# Altium footprint library con-leotronics.PCBLIB: 93 footprints (part 3 of 8)
Each footprint in its own frame and in the unit in brackets; x right, y up, seen from the top. Pads: shape width x height; smd on the part's side, far side on the other; paste and mask are expansions set on the pad; w line width, h text height; cw(c..) or ccw(c..) is an arc to the next point about the centre after c.
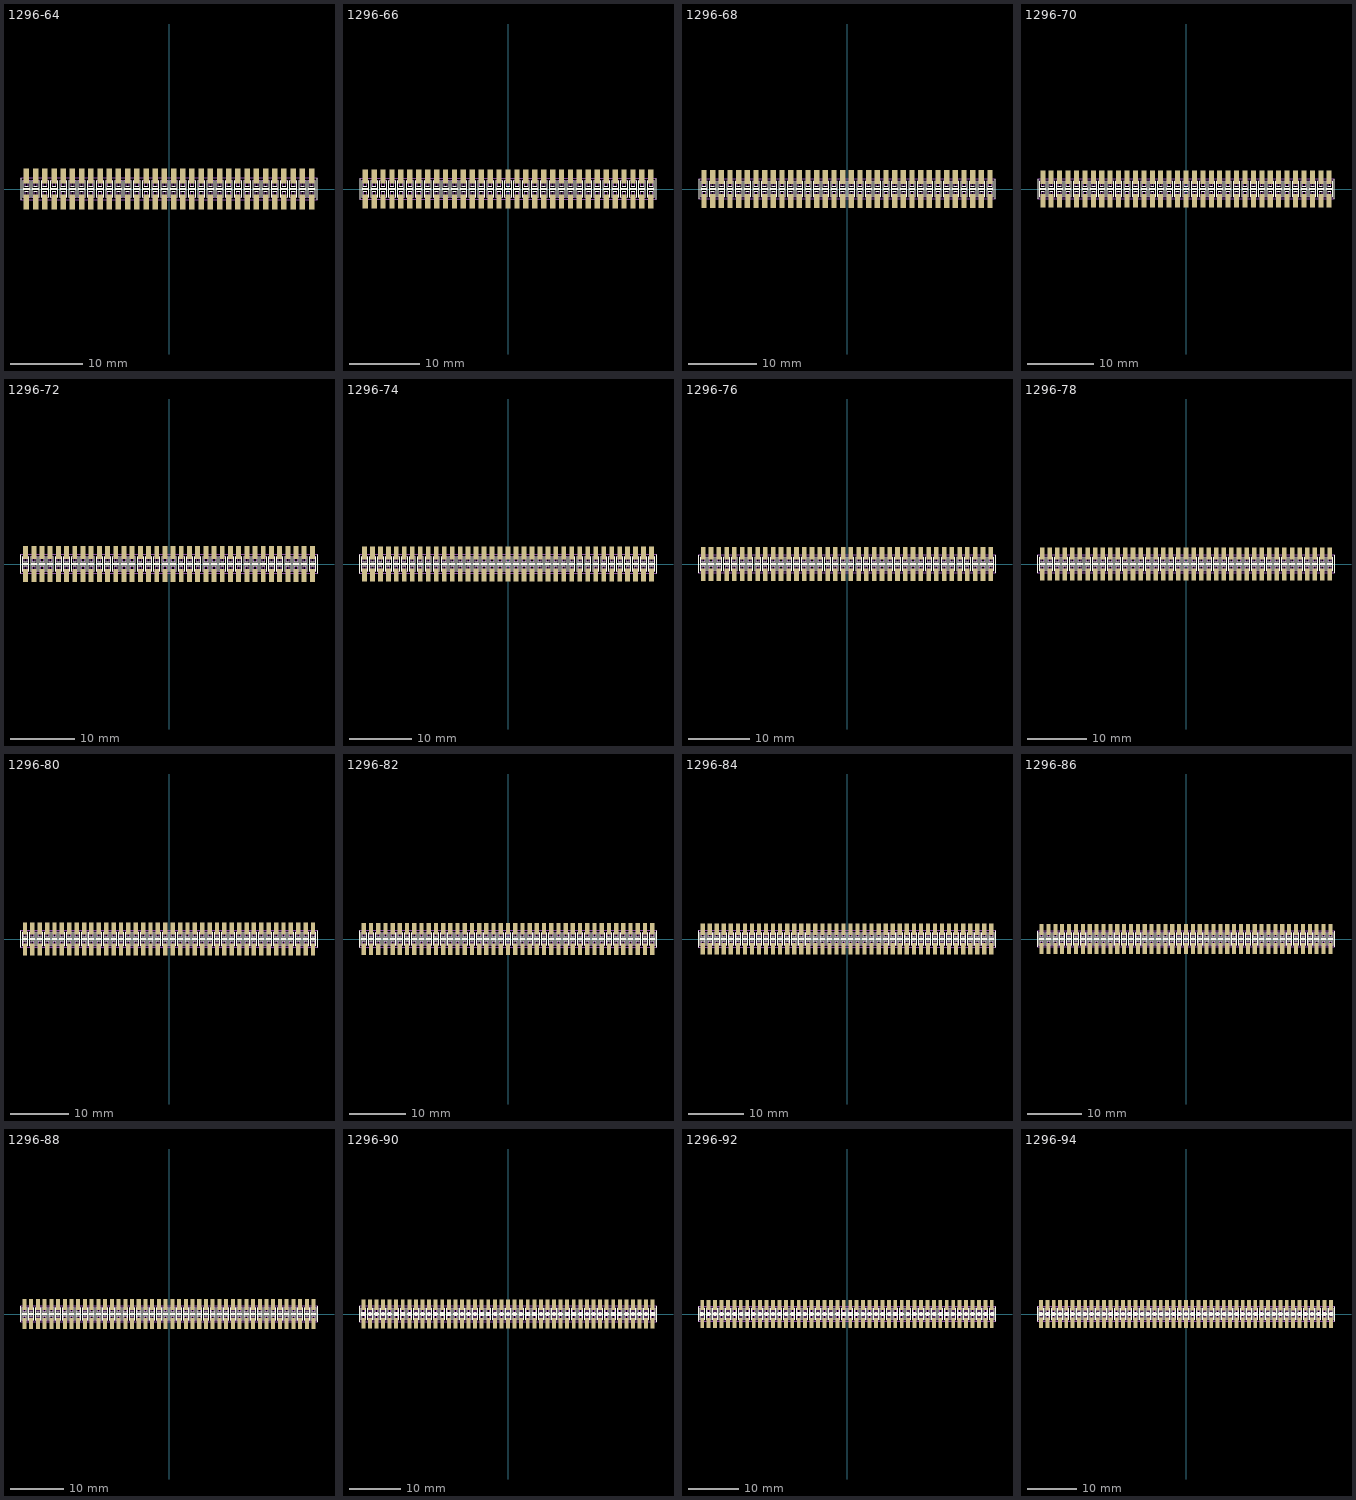
[diagram p2: the footprints below, top view; thin cyan lines are the x and y axes]

## 1296-64 [mm]
pads (64):
  rect 0.76x2.05 smd: 1(-19.685,-1.78) 2(-19.685,1.78) 3(-18.415,-1.78) 4(-18.415,1.78) 5(-17.145,-1.78) 6(-17.145,1.78) 7(-15.875,-1.78) 8(-15.875,1.78) 9(-14.605,-1.78) 10(-14.605,1.78) 11(-13.335,-1.78) 12(-13.335,1.78) 13(-12.065,-1.78) 14(-12.065,1.78) 15(-10.795,-1.78) 16(-10.795,1.78) 17(-9.525,-1.78) 18(-9.525,1.78) 19(-8.255,-1.78) 20(-8.255,1.78) 21(-6.985,-1.78) 22(-6.985,1.78) 23(-5.715,-1.78) 24(-5.715,1.78) 25(-4.445,-1.78) 26(-4.445,1.78) 27(-3.175,-1.78) 28(-3.175,1.78) 29(-1.905,-1.78) 30(-1.905,1.78) 31(-0.635,-1.78) 32(-0.635,1.78) 33(0.635,-1.78) 34(0.635,1.78) 35(1.905,-1.78) 36(1.905,1.78) 37(3.175,-1.78) 38(3.175,1.78) 39(4.445,-1.78) 40(4.445,1.78) 41(5.715,-1.78) 42(5.715,1.78) 43(6.985,-1.78) 44(6.985,1.78) 45(8.255,-1.78) 46(8.255,1.78) 47(9.525,-1.78) 48(9.525,1.78) 49(10.795,-1.78) 50(10.795,1.78) 51(12.065,-1.78) 52(12.065,1.78) 53(13.335,-1.78) 54(13.335,1.78) 55(14.605,-1.78) 56(14.605,1.78) 57(15.875,-1.78) 58(15.875,1.78) 59(17.145,-1.78) 60(17.145,1.78) 61(18.415,-1.78) 62(18.415,1.78) 63(19.685,-1.78) 64(19.685,1.78)
Top Overlay:
  drawing of 258 lines, arcs and shapes, not listed
Mechanical 16:
  drawing of 258 lines, arcs and shapes, not listed

## 1296-66 [mm]
pads (66):
  rect 0.76x2.05 smd: 1(-20.32,-1.78) 2(-20.32,1.78) 3(-19.05,-1.78) 4(-19.05,1.78) 5(-17.78,-1.78) 6(-17.78,1.78) 7(-16.51,-1.78) 8(-16.51,1.78) 9(-15.24,-1.78) 10(-15.24,1.78) 11(-13.97,-1.78) 12(-13.97,1.78) 13(-12.7,-1.78) 14(-12.7,1.78) 15(-11.43,-1.78) 16(-11.43,1.78) 17(-10.16,-1.78) 18(-10.16,1.78) 19(-8.89,-1.78) 20(-8.89,1.78) 21(-7.62,-1.78) 22(-7.62,1.78) 23(-6.35,-1.78) 24(-6.35,1.78) 25(-5.08,-1.78) 26(-5.08,1.78) 27(-3.81,-1.78) 28(-3.81,1.78) 29(-2.54,-1.78) 30(-2.54,1.78) 31(-1.27,-1.78) 32(-1.27,1.78) 33(0,-1.78) 34(0,1.78) 35(1.27,-1.78) 36(1.27,1.78) 37(2.54,-1.78) 38(2.54,1.78) 39(3.81,-1.78) 40(3.81,1.78) 41(5.08,-1.78) 42(5.08,1.78) 43(6.35,-1.78) 44(6.35,1.78) 45(7.62,-1.78) 46(7.62,1.78) 47(8.89,-1.78) 48(8.89,1.78) 49(10.16,-1.78) 50(10.16,1.78) 51(11.43,-1.78) 52(11.43,1.78) 53(12.7,-1.78) 54(12.7,1.78) 55(13.97,-1.78) 56(13.97,1.78) 57(15.24,-1.78) 58(15.24,1.78) 59(16.51,-1.78) 60(16.51,1.78) 61(17.78,-1.78) 62(17.78,1.78) 63(19.05,-1.78) 64(19.05,1.78) 65(20.32,-1.78) 66(20.32,1.78)
Top Overlay:
  drawing of 266 lines, arcs and shapes, not listed
Mechanical 16:
  drawing of 266 lines, arcs and shapes, not listed

## 1296-68 [mm]
pads (68):
  rect 0.76x2.05 smd: 1(-20.955,-1.78) 2(-20.955,1.78) 3(-19.685,-1.78) 4(-19.685,1.78) 5(-18.415,-1.78) 6(-18.415,1.78) 7(-17.145,-1.78) 8(-17.145,1.78) 9(-15.875,-1.78) 10(-15.875,1.78) 11(-14.605,-1.78) 12(-14.605,1.78) 13(-13.335,-1.78) 14(-13.335,1.78) 15(-12.065,-1.78) 16(-12.065,1.78) 17(-10.795,-1.78) 18(-10.795,1.78) 19(-9.525,-1.78) 20(-9.525,1.78) 21(-8.255,-1.78) 22(-8.255,1.78) 23(-6.985,-1.78) 24(-6.985,1.78) 25(-5.715,-1.78) 26(-5.715,1.78) 27(-4.445,-1.78) 28(-4.445,1.78) 29(-3.175,-1.78) 30(-3.175,1.78) 31(-1.905,-1.78) 32(-1.905,1.78) 33(-0.635,-1.78) 34(-0.635,1.78) 35(0.635,-1.78) 36(0.635,1.78) 37(1.905,-1.78) 38(1.905,1.78) 39(3.175,-1.78) 40(3.175,1.78) 41(4.445,-1.78) 42(4.445,1.78) 43(5.715,-1.78) 44(5.715,1.78) 45(6.985,-1.78) 46(6.985,1.78) 47(8.255,-1.78) 48(8.255,1.78) 49(9.525,-1.78) 50(9.525,1.78) 51(10.795,-1.78) 52(10.795,1.78) 53(12.065,-1.78) 54(12.065,1.78) 55(13.335,-1.78) 56(13.335,1.78) 57(14.605,-1.78) 58(14.605,1.78) 59(15.875,-1.78) 60(15.875,1.78) 61(17.145,-1.78) 62(17.145,1.78) 63(18.415,-1.78) 64(18.415,1.78) 65(19.685,-1.78) 66(19.685,1.78) 67(20.955,-1.78) 68(20.955,1.78)
Top Overlay:
  drawing of 274 lines, arcs and shapes, not listed
Mechanical 16:
  drawing of 274 lines, arcs and shapes, not listed

## 1296-70 [mm]
pads (70):
  rect 0.76x2.05 smd: 1(-21.59,-1.78) 2(-21.59,1.78) 3(-20.32,-1.78) 4(-20.32,1.78) 5(-19.05,-1.78) 6(-19.05,1.78) 7(-17.78,-1.78) 8(-17.78,1.78) 9(-16.51,-1.78) 10(-16.51,1.78) 11(-15.24,-1.78) 12(-15.24,1.78) 13(-13.97,-1.78) 14(-13.97,1.78) 15(-12.7,-1.78) 16(-12.7,1.78) 17(-11.43,-1.78) 18(-11.43,1.78) 19(-10.16,-1.78) 20(-10.16,1.78) 21(-8.89,-1.78) 22(-8.89,1.78) 23(-7.62,-1.78) 24(-7.62,1.78) 25(-6.35,-1.78) 26(-6.35,1.78) 27(-5.08,-1.78) 28(-5.08,1.78) 29(-3.81,-1.78) 30(-3.81,1.78) 31(-2.54,-1.78) 32(-2.54,1.78) 33(-1.27,-1.78) 34(-1.27,1.78) 35(0,-1.78) 36(0,1.78) 37(1.27,-1.78) 38(1.27,1.78) 39(2.54,-1.78) 40(2.54,1.78) 41(3.81,-1.78) 42(3.81,1.78) 43(5.08,-1.78) 44(5.08,1.78) 45(6.35,-1.78) 46(6.35,1.78) 47(7.62,-1.78) 48(7.62,1.78) 49(8.89,-1.78) 50(8.89,1.78) 51(10.16,-1.78) 52(10.16,1.78) 53(11.43,-1.78) 54(11.43,1.78) 55(12.7,-1.78) 56(12.7,1.78) 57(13.97,-1.78) 58(13.97,1.78) 59(15.24,-1.78) 60(15.24,1.78) 61(16.51,-1.78) 62(16.51,1.78) 63(17.78,-1.78) 64(17.78,1.78) 65(19.05,-1.78) 66(19.05,1.78) 67(20.32,-1.78) 68(20.32,1.78) 69(21.59,-1.78) 70(21.59,1.78)
Top Overlay:
  drawing of 282 lines, arcs and shapes, not listed
Mechanical 16:
  drawing of 282 lines, arcs and shapes, not listed

## 1296-72 [mm]
pads (72):
  rect 0.76x2.05 smd: 1(-22.225,-1.78) 2(-22.225,1.78) 3(-20.955,-1.78) 4(-20.955,1.78) 5(-19.685,-1.78) 6(-19.685,1.78) 7(-18.415,-1.78) 8(-18.415,1.78) 9(-17.145,-1.78) 10(-17.145,1.78) 11(-15.875,-1.78) 12(-15.875,1.78) 13(-14.605,-1.78) 14(-14.605,1.78) 15(-13.335,-1.78) 16(-13.335,1.78) 17(-12.065,-1.78) 18(-12.065,1.78) 19(-10.795,-1.78) 20(-10.795,1.78) 21(-9.525,-1.78) 22(-9.525,1.78) 23(-8.255,-1.78) 24(-8.255,1.78) 25(-6.985,-1.78) 26(-6.985,1.78) 27(-5.715,-1.78) 28(-5.715,1.78) 29(-4.445,-1.78) 30(-4.445,1.78) 31(-3.175,-1.78) 32(-3.175,1.78) 33(-1.905,-1.78) 34(-1.905,1.78) 35(-0.635,-1.78) 36(-0.635,1.78) 37(0.635,-1.78) 38(0.635,1.78) 39(1.905,-1.78) 40(1.905,1.78) 41(3.175,-1.78) 42(3.175,1.78) 43(4.445,-1.78) 44(4.445,1.78) 45(5.715,-1.78) 46(5.715,1.78) 47(6.985,-1.78) 48(6.985,1.78) 49(8.255,-1.78) 50(8.255,1.78) 51(9.525,-1.78) 52(9.525,1.78) 53(10.795,-1.78) 54(10.795,1.78) 55(12.065,-1.78) 56(12.065,1.78) 57(13.335,-1.78) 58(13.335,1.78) 59(14.605,-1.78) 60(14.605,1.78) 61(15.875,-1.78) 62(15.875,1.78) 63(17.145,-1.78) 64(17.145,1.78) 65(18.415,-1.78) 66(18.415,1.78) 67(19.685,-1.78) 68(19.685,1.78) 69(20.955,-1.78) 70(20.955,1.78) 71(22.225,-1.78) 72(22.225,1.78)
Top Overlay:
  drawing of 290 lines, arcs and shapes, not listed
Mechanical 16:
  drawing of 290 lines, arcs and shapes, not listed

## 1296-74 [mm]
pads (74):
  rect 0.76x2.05 smd: 1(-22.86,-1.78) 2(-22.86,1.78) 3(-21.59,-1.78) 4(-21.59,1.78) 5(-20.32,-1.78) 6(-20.32,1.78) 7(-19.05,-1.78) 8(-19.05,1.78) 9(-17.78,-1.78) 10(-17.78,1.78) 11(-16.51,-1.78) 12(-16.51,1.78) 13(-15.24,-1.78) 14(-15.24,1.78) 15(-13.97,-1.78) 16(-13.97,1.78) 17(-12.7,-1.78) 18(-12.7,1.78) 19(-11.43,-1.78) 20(-11.43,1.78) 21(-10.16,-1.78) 22(-10.16,1.78) 23(-8.89,-1.78) 24(-8.89,1.78) 25(-7.62,-1.78) 26(-7.62,1.78) 27(-6.35,-1.78) 28(-6.35,1.78) 29(-5.08,-1.78) 30(-5.08,1.78) 31(-3.81,-1.78) 32(-3.81,1.78) 33(-2.54,-1.78) 34(-2.54,1.78) 35(-1.27,-1.78) 36(-1.27,1.78) 37(0,-1.78) 38(0,1.78) 39(1.27,-1.78) 40(1.27,1.78) 41(2.54,-1.78) 42(2.54,1.78) 43(3.81,-1.78) 44(3.81,1.78) 45(5.08,-1.78) 46(5.08,1.78) 47(6.35,-1.78) 48(6.35,1.78) 49(7.62,-1.78) 50(7.62,1.78) 51(8.89,-1.78) 52(8.89,1.78) 53(10.16,-1.78) 54(10.16,1.78) 55(11.43,-1.78) 56(11.43,1.78) 57(12.7,-1.78) 58(12.7,1.78) 59(13.97,-1.78) 60(13.97,1.78) 61(15.24,-1.78) 62(15.24,1.78) 63(16.51,-1.78) 64(16.51,1.78) 65(17.78,-1.78) 66(17.78,1.78) 67(19.05,-1.78) 68(19.05,1.78) 69(20.32,-1.78) 70(20.32,1.78) 71(21.59,-1.78) 72(21.59,1.78) 73(22.86,-1.78) 74(22.86,1.78)
Top Overlay:
  drawing of 298 lines, arcs and shapes, not listed
Mechanical 16:
  drawing of 298 lines, arcs and shapes, not listed

## 1296-76 [mm]
pads (76):
  rect 0.76x2.05 smd: 1(-23.495,-1.78) 2(-23.495,1.78) 3(-22.225,-1.78) 4(-22.225,1.78) 5(-20.955,-1.78) 6(-20.955,1.78) 7(-19.685,-1.78) 8(-19.685,1.78) 9(-18.415,-1.78) 10(-18.415,1.78) 11(-17.145,-1.78) 12(-17.145,1.78) 13(-15.875,-1.78) 14(-15.875,1.78) 15(-14.605,-1.78) 16(-14.605,1.78) 17(-13.335,-1.78) 18(-13.335,1.78) 19(-12.065,-1.78) 20(-12.065,1.78) 21(-10.795,-1.78) 22(-10.795,1.78) 23(-9.525,-1.78) 24(-9.525,1.78) 25(-8.255,-1.78) 26(-8.255,1.78) 27(-6.985,-1.78) 28(-6.985,1.78) 29(-5.715,-1.78) 30(-5.715,1.78) 31(-4.445,-1.78) 32(-4.445,1.78) 33(-3.175,-1.78) 34(-3.175,1.78) 35(-1.905,-1.78) 36(-1.905,1.78) 37(-0.635,-1.78) 38(-0.635,1.78) 39(0.635,-1.78) 40(0.635,1.78) 41(1.905,-1.78) 42(1.905,1.78) 43(3.175,-1.78) 44(3.175,1.78) 45(4.445,-1.78) 46(4.445,1.78) 47(5.715,-1.78) 48(5.715,1.78) 49(6.985,-1.78) 50(6.985,1.78) 51(8.255,-1.78) 52(8.255,1.78) 53(9.525,-1.78) 54(9.525,1.78) 55(10.795,-1.78) 56(10.795,1.78) 57(12.065,-1.78) 58(12.065,1.78) 59(13.335,-1.78) 60(13.335,1.78) 61(14.605,-1.78) 62(14.605,1.78) 63(15.875,-1.78) 64(15.875,1.78) 65(17.145,-1.78) 66(17.145,1.78) 67(18.415,-1.78) 68(18.415,1.78) 69(19.685,-1.78) 70(19.685,1.78) 71(20.955,-1.78) 72(20.955,1.78) 73(22.225,-1.78) 74(22.225,1.78) 75(23.495,-1.78) 76(23.495,1.78)
Top Overlay:
  drawing of 306 lines, arcs and shapes, not listed
Mechanical 16:
  drawing of 306 lines, arcs and shapes, not listed

## 1296-78 [mm]
pads (78):
  rect 0.76x2.05 smd: 1(-24.13,-1.78) 2(-24.13,1.78) 3(-22.86,-1.78) 4(-22.86,1.78) 5(-21.59,-1.78) 6(-21.59,1.78) 7(-20.32,-1.78) 8(-20.32,1.78) 9(-19.05,-1.78) 10(-19.05,1.78) 11(-17.78,-1.78) 12(-17.78,1.78) 13(-16.51,-1.78) 14(-16.51,1.78) 15(-15.24,-1.78) 16(-15.24,1.78) 17(-13.97,-1.78) 18(-13.97,1.78) 19(-12.7,-1.78) 20(-12.7,1.78) 21(-11.43,-1.78) 22(-11.43,1.78) 23(-10.16,-1.78) 24(-10.16,1.78) 25(-8.89,-1.78) 26(-8.89,1.78) 27(-7.62,-1.78) 28(-7.62,1.78) 29(-6.35,-1.78) 30(-6.35,1.78) 31(-5.08,-1.78) 32(-5.08,1.78) 33(-3.81,-1.78) 34(-3.81,1.78) 35(-2.54,-1.78) 36(-2.54,1.78) 37(-1.27,-1.78) 38(-1.27,1.78) 39(0,-1.78) 40(0,1.78) 41(1.27,-1.78) 42(1.27,1.78) 43(2.54,-1.78) 44(2.54,1.78) 45(3.81,-1.78) 46(3.81,1.78) 47(5.08,-1.78) 48(5.08,1.78) 49(6.35,-1.78) 50(6.35,1.78) 51(7.62,-1.78) 52(7.62,1.78) 53(8.89,-1.78) 54(8.89,1.78) 55(10.16,-1.78) 56(10.16,1.78) 57(11.43,-1.78) 58(11.43,1.78) 59(12.7,-1.78) 60(12.7,1.78) 61(13.97,-1.78) 62(13.97,1.78) 63(15.24,-1.78) 64(15.24,1.78) 65(16.51,-1.78) 66(16.51,1.78) 67(17.78,-1.78) 68(17.78,1.78) 69(19.05,-1.78) 70(19.05,1.78) 71(20.32,-1.78) 72(20.32,1.78) 73(21.59,-1.78) 74(21.59,1.78) 75(22.86,-1.78) 76(22.86,1.78) 77(24.13,-1.78) 78(24.13,1.78)
Top Overlay:
  drawing of 314 lines, arcs and shapes, not listed
Mechanical 16:
  drawing of 314 lines, arcs and shapes, not listed

## 1296-80 [mm]
pads (80):
  rect 0.76x2.05 smd: 1(-24.765,-1.78) 2(-24.765,1.78) 3(-23.495,-1.78) 4(-23.495,1.78) 5(-22.225,-1.78) 6(-22.225,1.78) 7(-20.955,-1.78) 8(-20.955,1.78) 9(-19.685,-1.78) 10(-19.685,1.78) 11(-18.415,-1.78) 12(-18.415,1.78) 13(-17.145,-1.78) 14(-17.145,1.78) 15(-15.875,-1.78) 16(-15.875,1.78) 17(-14.605,-1.78) 18(-14.605,1.78) 19(-13.335,-1.78) 20(-13.335,1.78) 21(-12.065,-1.78) 22(-12.065,1.78) 23(-10.795,-1.78) 24(-10.795,1.78) 25(-9.525,-1.78) 26(-9.525,1.78) 27(-8.255,-1.78) 28(-8.255,1.78) 29(-6.985,-1.78) 30(-6.985,1.78) 31(-5.715,-1.78) 32(-5.715,1.78) 33(-4.445,-1.78) 34(-4.445,1.78) 35(-3.175,-1.78) 36(-3.175,1.78) 37(-1.905,-1.78) 38(-1.905,1.78) 39(-0.635,-1.78) 40(-0.635,1.78) 41(0.635,-1.78) 42(0.635,1.78) 43(1.905,-1.78) 44(1.905,1.78) 45(3.175,-1.78) 46(3.175,1.78) 47(4.445,-1.78) 48(4.445,1.78) 49(5.715,-1.78) 50(5.715,1.78) 51(6.985,-1.78) 52(6.985,1.78) 53(8.255,-1.78) 54(8.255,1.78) 55(9.525,-1.78) 56(9.525,1.78) 57(10.795,-1.78) 58(10.795,1.78) 59(12.065,-1.78) 60(12.065,1.78) 61(13.335,-1.78) 62(13.335,1.78) 63(14.605,-1.78) 64(14.605,1.78) 65(15.875,-1.78) 66(15.875,1.78) 67(17.145,-1.78) 68(17.145,1.78) 69(18.415,-1.78) 70(18.415,1.78) 71(19.685,-1.78) 72(19.685,1.78) 73(20.955,-1.78) 74(20.955,1.78) 75(22.225,-1.78) 76(22.225,1.78) 77(23.495,-1.78) 78(23.495,1.78) 79(24.765,-1.78) 80(24.765,1.78)
Top Overlay:
  drawing of 322 lines, arcs and shapes, not listed
Mechanical 16:
  drawing of 322 lines, arcs and shapes, not listed

## 1296-82 [mm]
pads (82):
  rect 0.76x2.05 smd: 1(-25.4,-1.78) 2(-25.4,1.78) 3(-24.13,-1.78) 4(-24.13,1.78) 5(-22.86,-1.78) 6(-22.86,1.78) 7(-21.59,-1.78) 8(-21.59,1.78) 9(-20.32,-1.78) 10(-20.32,1.78) 11(-19.05,-1.78) 12(-19.05,1.78) 13(-17.78,-1.78) 14(-17.78,1.78) 15(-16.51,-1.78) 16(-16.51,1.78) 17(-15.24,-1.78) 18(-15.24,1.78) 19(-13.97,-1.78) 20(-13.97,1.78) 21(-12.7,-1.78) 22(-12.7,1.78) 23(-11.43,-1.78) 24(-11.43,1.78) 25(-10.16,-1.78) 26(-10.16,1.78) 27(-8.89,-1.78) 28(-8.89,1.78) 29(-7.62,-1.78) 30(-7.62,1.78) 31(-6.35,-1.78) 32(-6.35,1.78) 33(-5.08,-1.78) 34(-5.08,1.78) 35(-3.81,-1.78) 36(-3.81,1.78) 37(-2.54,-1.78) 38(-2.54,1.78) 39(-1.27,-1.78) 40(-1.27,1.78) 41(0,-1.78) 42(0,1.78) 43(1.27,-1.78) 44(1.27,1.78) 45(2.54,-1.78) 46(2.54,1.78) 47(3.81,-1.78) 48(3.81,1.78) 49(5.08,-1.78) 50(5.08,1.78) 51(6.35,-1.78) 52(6.35,1.78) 53(7.62,-1.78) 54(7.62,1.78) 55(8.89,-1.78) 56(8.89,1.78) 57(10.16,-1.78) 58(10.16,1.78) 59(11.43,-1.78) 60(11.43,1.78) 61(12.7,-1.78) 62(12.7,1.78) 63(13.97,-1.78) 64(13.97,1.78) 65(15.24,-1.78) 66(15.24,1.78) 67(16.51,-1.78) 68(16.51,1.78) 69(17.78,-1.78) 70(17.78,1.78) 71(19.05,-1.78) 72(19.05,1.78) 73(20.32,-1.78) 74(20.32,1.78) 75(21.59,-1.78) 76(21.59,1.78) 77(22.86,-1.78) 78(22.86,1.78) 79(24.13,-1.78) 80(24.13,1.78) 81(25.4,-1.78) 82(25.4,1.78)
Top Overlay:
  drawing of 330 lines, arcs and shapes, not listed
Mechanical 16:
  drawing of 330 lines, arcs and shapes, not listed

## 1296-84 [mm]
pads (84):
  rect 0.76x2.05 smd: 1(-26.035,-1.78) 2(-26.035,1.78) 3(-24.765,-1.78) 4(-24.765,1.78) 5(-23.495,-1.78) 6(-23.495,1.78) 7(-22.225,-1.78) 8(-22.225,1.78) 9(-20.955,-1.78) 10(-20.955,1.78) 11(-19.685,-1.78) 12(-19.685,1.78) 13(-18.415,-1.78) 14(-18.415,1.78) 15(-17.145,-1.78) 16(-17.145,1.78) 17(-15.875,-1.78) 18(-15.875,1.78) 19(-14.605,-1.78) 20(-14.605,1.78) 21(-13.335,-1.78) 22(-13.335,1.78) 23(-12.065,-1.78) 24(-12.065,1.78) 25(-10.795,-1.78) 26(-10.795,1.78) 27(-9.525,-1.78) 28(-9.525,1.78) 29(-8.255,-1.78) 30(-8.255,1.78) 31(-6.985,-1.78) 32(-6.985,1.78) 33(-5.715,-1.78) 34(-5.715,1.78) 35(-4.445,-1.78) 36(-4.445,1.78) 37(-3.175,-1.78) 38(-3.175,1.78) 39(-1.905,-1.78) 40(-1.905,1.78) 41(-0.635,-1.78) 42(-0.635,1.78) 43(0.635,-1.78) 44(0.635,1.78) 45(1.905,-1.78) 46(1.905,1.78) 47(3.175,-1.78) 48(3.175,1.78) 49(4.445,-1.78) 50(4.445,1.78) 51(5.715,-1.78) 52(5.715,1.78) 53(6.985,-1.78) 54(6.985,1.78) 55(8.255,-1.78) 56(8.255,1.78) 57(9.525,-1.78) 58(9.525,1.78) 59(10.795,-1.78) 60(10.795,1.78) 61(12.065,-1.78) 62(12.065,1.78) 63(13.335,-1.78) 64(13.335,1.78) 65(14.605,-1.78) 66(14.605,1.78) 67(15.875,-1.78) 68(15.875,1.78) 69(17.145,-1.78) 70(17.145,1.78) 71(18.415,-1.78) 72(18.415,1.78) 73(19.685,-1.78) 74(19.685,1.78) 75(20.955,-1.78) 76(20.955,1.78) 77(22.225,-1.78) 78(22.225,1.78) 79(23.495,-1.78) 80(23.495,1.78) 81(24.765,-1.78) 82(24.765,1.78) 83(26.035,-1.78) 84(26.035,1.78)
Top Overlay:
  drawing of 338 lines, arcs and shapes, not listed
Mechanical 16:
  drawing of 338 lines, arcs and shapes, not listed

## 1296-86 [mm]
pads (86):
  rect 0.76x2.05 smd: 1(-26.67,-1.78) 2(-26.67,1.78) 3(-25.4,-1.78) 4(-25.4,1.78) 5(-24.13,-1.78) 6(-24.13,1.78) 7(-22.86,-1.78) 8(-22.86,1.78) 9(-21.59,-1.78) 10(-21.59,1.78) 11(-20.32,-1.78) 12(-20.32,1.78) 13(-19.05,-1.78) 14(-19.05,1.78) 15(-17.78,-1.78) 16(-17.78,1.78) 17(-16.51,-1.78) 18(-16.51,1.78) 19(-15.24,-1.78) 20(-15.24,1.78) 21(-13.97,-1.78) 22(-13.97,1.78) 23(-12.7,-1.78) 24(-12.7,1.78) 25(-11.43,-1.78) 26(-11.43,1.78) 27(-10.16,-1.78) 28(-10.16,1.78) 29(-8.89,-1.78) 30(-8.89,1.78) 31(-7.62,-1.78) 32(-7.62,1.78) 33(-6.35,-1.78) 34(-6.35,1.78) 35(-5.08,-1.78) 36(-5.08,1.78) 37(-3.81,-1.78) 38(-3.81,1.78) 39(-2.54,-1.78) 40(-2.54,1.78) 41(-1.27,-1.78) 42(-1.27,1.78) 43(0,-1.78) 44(0,1.78) 45(1.27,-1.78) 46(1.27,1.78) 47(2.54,-1.78) 48(2.54,1.78) 49(3.81,-1.78) 50(3.81,1.78) 51(5.08,-1.78) 52(5.08,1.78) 53(6.35,-1.78) 54(6.35,1.78) 55(7.62,-1.78) 56(7.62,1.78) 57(8.89,-1.78) 58(8.89,1.78) 59(10.16,-1.78) 60(10.16,1.78) 61(11.43,-1.78) 62(11.43,1.78) 63(12.7,-1.78) 64(12.7,1.78) 65(13.97,-1.78) 66(13.97,1.78) 67(15.24,-1.78) 68(15.24,1.78) 69(16.51,-1.78) 70(16.51,1.78) 71(17.78,-1.78) 72(17.78,1.78) 73(19.05,-1.78) 74(19.05,1.78) 75(20.32,-1.78) 76(20.32,1.78) 77(21.59,-1.78) 78(21.59,1.78) 79(22.86,-1.78) 80(22.86,1.78) 81(24.13,-1.78) 82(24.13,1.78) 83(25.4,-1.78) 84(25.4,1.78) 85(26.67,-1.78) 86(26.67,1.78)
Top Overlay:
  drawing of 346 lines, arcs and shapes, not listed
Mechanical 16:
  drawing of 346 lines, arcs and shapes, not listed

## 1296-88 [mm]
pads (88):
  rect 0.76x2.05 smd: 1(-27.305,-1.78) 2(-27.305,1.78) 3(-26.035,-1.78) 4(-26.035,1.78) 5(-24.765,-1.78) 6(-24.765,1.78) 7(-23.495,-1.78) 8(-23.495,1.78) 9(-22.225,-1.78) 10(-22.225,1.78) 11(-20.955,-1.78) 12(-20.955,1.78) 13(-19.685,-1.78) 14(-19.685,1.78) 15(-18.415,-1.78) 16(-18.415,1.78) 17(-17.145,-1.78) 18(-17.145,1.78) 19(-15.875,-1.78) 20(-15.875,1.78) 21(-14.605,-1.78) 22(-14.605,1.78) 23(-13.335,-1.78) 24(-13.335,1.78) 25(-12.065,-1.78) 26(-12.065,1.78) 27(-10.795,-1.78) 28(-10.795,1.78) 29(-9.525,-1.78) 30(-9.525,1.78) 31(-8.255,-1.78) 32(-8.255,1.78) 33(-6.985,-1.78) 34(-6.985,1.78) 35(-5.715,-1.78) 36(-5.715,1.78) 37(-4.445,-1.78) 38(-4.445,1.78) 39(-3.175,-1.78) 40(-3.175,1.78) 41(-1.905,-1.78) 42(-1.905,1.78) 43(-0.635,-1.78) 44(-0.635,1.78) 45(0.635,-1.78) 46(0.635,1.78) 47(1.905,-1.78) 48(1.905,1.78) 49(3.175,-1.78) 50(3.175,1.78) 51(4.445,-1.78) 52(4.445,1.78) 53(5.715,-1.78) 54(5.715,1.78) 55(6.985,-1.78) 56(6.985,1.78) 57(8.255,-1.78) 58(8.255,1.78) 59(9.525,-1.78) 60(9.525,1.78) 61(10.795,-1.78) 62(10.795,1.78) 63(12.065,-1.78) 64(12.065,1.78) 65(13.335,-1.78) 66(13.335,1.78) 67(14.605,-1.78) 68(14.605,1.78) 69(15.875,-1.78) 70(15.875,1.78) 71(17.145,-1.78) 72(17.145,1.78) 73(18.415,-1.78) 74(18.415,1.78) 75(19.685,-1.78) 76(19.685,1.78) 77(20.955,-1.78) 78(20.955,1.78) 79(22.225,-1.78) 80(22.225,1.78) 81(23.495,-1.78) 82(23.495,1.78) 83(24.765,-1.78) 84(24.765,1.78) 85(26.035,-1.78) 86(26.035,1.78) 87(27.305,-1.78) 88(27.305,1.78)
Top Overlay:
  drawing of 354 lines, arcs and shapes, not listed
Mechanical 16:
  drawing of 354 lines, arcs and shapes, not listed

## 1296-90 [mm]
pads (90):
  rect 0.76x2.05 smd: 1(-27.94,-1.78) 2(-27.94,1.78) 3(-26.67,-1.78) 4(-26.67,1.78) 5(-25.4,-1.78) 6(-25.4,1.78) 7(-24.13,-1.78) 8(-24.13,1.78) 9(-22.86,-1.78) 10(-22.86,1.78) 11(-21.59,-1.78) 12(-21.59,1.78) 13(-20.32,-1.78) 14(-20.32,1.78) 15(-19.05,-1.78) 16(-19.05,1.78) 17(-17.78,-1.78) 18(-17.78,1.78) 19(-16.51,-1.78) 20(-16.51,1.78) 21(-15.24,-1.78) 22(-15.24,1.78) 23(-13.97,-1.78) 24(-13.97,1.78) 25(-12.7,-1.78) 26(-12.7,1.78) 27(-11.43,-1.78) 28(-11.43,1.78) 29(-10.16,-1.78) 30(-10.16,1.78) 31(-8.89,-1.78) 32(-8.89,1.78) 33(-7.62,-1.78) 34(-7.62,1.78) 35(-6.35,-1.78) 36(-6.35,1.78) 37(-5.08,-1.78) 38(-5.08,1.78) 39(-3.81,-1.78) 40(-3.81,1.78) 41(-2.54,-1.78) 42(-2.54,1.78) 43(-1.27,-1.78) 44(-1.27,1.78) 45(0,-1.78) 46(0,1.78) 47(1.27,-1.78) 48(1.27,1.78) 49(2.54,-1.78) 50(2.54,1.78) 51(3.81,-1.78) 52(3.81,1.78) 53(5.08,-1.78) 54(5.08,1.78) 55(6.35,-1.78) 56(6.35,1.78) 57(7.62,-1.78) 58(7.62,1.78) 59(8.89,-1.78) 60(8.89,1.78) 61(10.16,-1.78) 62(10.16,1.78) 63(11.43,-1.78) 64(11.43,1.78) 65(12.7,-1.78) 66(12.7,1.78) 67(13.97,-1.78) 68(13.97,1.78) 69(15.24,-1.78) 70(15.24,1.78) 71(16.51,-1.78) 72(16.51,1.78) 73(17.78,-1.78) 74(17.78,1.78) 75(19.05,-1.78) 76(19.05,1.78) 77(20.32,-1.78) 78(20.32,1.78) 79(21.59,-1.78) 80(21.59,1.78) 81(22.86,-1.78) 82(22.86,1.78) 83(24.13,-1.78) 84(24.13,1.78) 85(25.4,-1.78) 86(25.4,1.78) 87(26.67,-1.78) 88(26.67,1.78) 89(27.94,-1.78) 90(27.94,1.78)
Top Overlay:
  drawing of 362 lines, arcs and shapes, not listed
Mechanical 16:
  drawing of 362 lines, arcs and shapes, not listed

## 1296-92 [mm]
pads (92):
  rect 0.76x2.05 smd: 1(-28.575,-1.78) 2(-28.575,1.78) 3(-27.305,-1.78) 4(-27.305,1.78) 5(-26.035,-1.78) 6(-26.035,1.78) 7(-24.765,-1.78) 8(-24.765,1.78) 9(-23.495,-1.78) 10(-23.495,1.78) 11(-22.225,-1.78) 12(-22.225,1.78) 13(-20.955,-1.78) 14(-20.955,1.78) 15(-19.685,-1.78) 16(-19.685,1.78) 17(-18.415,-1.78) 18(-18.415,1.78) 19(-17.145,-1.78) 20(-17.145,1.78) 21(-15.875,-1.78) 22(-15.875,1.78) 23(-14.605,-1.78) 24(-14.605,1.78) 25(-13.335,-1.78) 26(-13.335,1.78) 27(-12.065,-1.78) 28(-12.065,1.78) 29(-10.795,-1.78) 30(-10.795,1.78) 31(-9.525,-1.78) 32(-9.525,1.78) 33(-8.255,-1.78) 34(-8.255,1.78) 35(-6.985,-1.78) 36(-6.985,1.78) 37(-5.715,-1.78) 38(-5.715,1.78) 39(-4.445,-1.78) 40(-4.445,1.78) 41(-3.175,-1.78) 42(-3.175,1.78) 43(-1.905,-1.78) 44(-1.905,1.78) 45(-0.635,-1.78) 46(-0.635,1.78) 47(0.635,-1.78) 48(0.635,1.78) 49(1.905,-1.78) 50(1.905,1.78) 51(3.175,-1.78) 52(3.175,1.78) 53(4.445,-1.78) 54(4.445,1.78) 55(5.715,-1.78) 56(5.715,1.78) 57(6.985,-1.78) 58(6.985,1.78) 59(8.255,-1.78) 60(8.255,1.78) 61(9.525,-1.78) 62(9.525,1.78) 63(10.795,-1.78) 64(10.795,1.78) 65(12.065,-1.78) 66(12.065,1.78) 67(13.335,-1.78) 68(13.335,1.78) 69(14.605,-1.78) 70(14.605,1.78) 71(15.875,-1.78) 72(15.875,1.78) 73(17.145,-1.78) 74(17.145,1.78) 75(18.415,-1.78) 76(18.415,1.78) 77(19.685,-1.78) 78(19.685,1.78) 79(20.955,-1.78) 80(20.955,1.78) 81(22.225,-1.78) 82(22.225,1.78) 83(23.495,-1.78) 84(23.495,1.78) 85(24.765,-1.78) 86(24.765,1.78) 87(26.035,-1.78) 88(26.035,1.78) 89(27.305,-1.78) 90(27.305,1.78) 91(28.575,-1.78) 92(28.575,1.78)
Top Overlay:
  drawing of 370 lines, arcs and shapes, not listed
Mechanical 16:
  drawing of 370 lines, arcs and shapes, not listed

## 1296-94 [mm]
pads (94):
  rect 0.76x2.05 smd: 1(-29.21,-1.78) 2(-29.21,1.78) 3(-27.94,-1.78) 4(-27.94,1.78) 5(-26.67,-1.78) 6(-26.67,1.78) 7(-25.4,-1.78) 8(-25.4,1.78) 9(-24.13,-1.78) 10(-24.13,1.78) 11(-22.86,-1.78) 12(-22.86,1.78) 13(-21.59,-1.78) 14(-21.59,1.78) 15(-20.32,-1.78) 16(-20.32,1.78) 17(-19.05,-1.78) 18(-19.05,1.78) 19(-17.78,-1.78) 20(-17.78,1.78) 21(-16.51,-1.78) 22(-16.51,1.78) 23(-15.24,-1.78) 24(-15.24,1.78) 25(-13.97,-1.78) 26(-13.97,1.78) 27(-12.7,-1.78) 28(-12.7,1.78) 29(-11.43,-1.78) 30(-11.43,1.78) 31(-10.16,-1.78) 32(-10.16,1.78) 33(-8.89,-1.78) 34(-8.89,1.78) 35(-7.62,-1.78) 36(-7.62,1.78) 37(-6.35,-1.78) 38(-6.35,1.78) 39(-5.08,-1.78) 40(-5.08,1.78) 41(-3.81,-1.78) 42(-3.81,1.78) 43(-2.54,-1.78) 44(-2.54,1.78) 45(-1.27,-1.78) 46(-1.27,1.78) 47(0,-1.78) 48(0,1.78) 49(1.27,-1.78) 50(1.27,1.78) 51(2.54,-1.78) 52(2.54,1.78) 53(3.81,-1.78) 54(3.81,1.78) 55(5.08,-1.78) 56(5.08,1.78) 57(6.35,-1.78) 58(6.35,1.78) 59(7.62,-1.78) 60(7.62,1.78) 61(8.89,-1.78) 62(8.89,1.78) 63(10.16,-1.78) 64(10.16,1.78) 65(11.43,-1.78) 66(11.43,1.78) 67(12.7,-1.78) 68(12.7,1.78) 69(13.97,-1.78) 70(13.97,1.78) 71(15.24,-1.78) 72(15.24,1.78) 73(16.51,-1.78) 74(16.51,1.78) 75(17.78,-1.78) 76(17.78,1.78) 77(19.05,-1.78) 78(19.05,1.78) 79(20.32,-1.78) 80(20.32,1.78) 81(21.59,-1.78) 82(21.59,1.78) 83(22.86,-1.78) 84(22.86,1.78) 85(24.13,-1.78) 86(24.13,1.78) 87(25.4,-1.78) 88(25.4,1.78) 89(26.67,-1.78) 90(26.67,1.78) 91(27.94,-1.78) 92(27.94,1.78) 93(29.21,-1.78) 94(29.21,1.78)
Top Overlay:
  drawing of 378 lines, arcs and shapes, not listed
Mechanical 16:
  drawing of 378 lines, arcs and shapes, not listed